# Altium schematic symbol library 3.4 - 合泰单片机.SchLib: 28 symbols
Pins are listed as number, name and electrical type; pins without a type are passive.

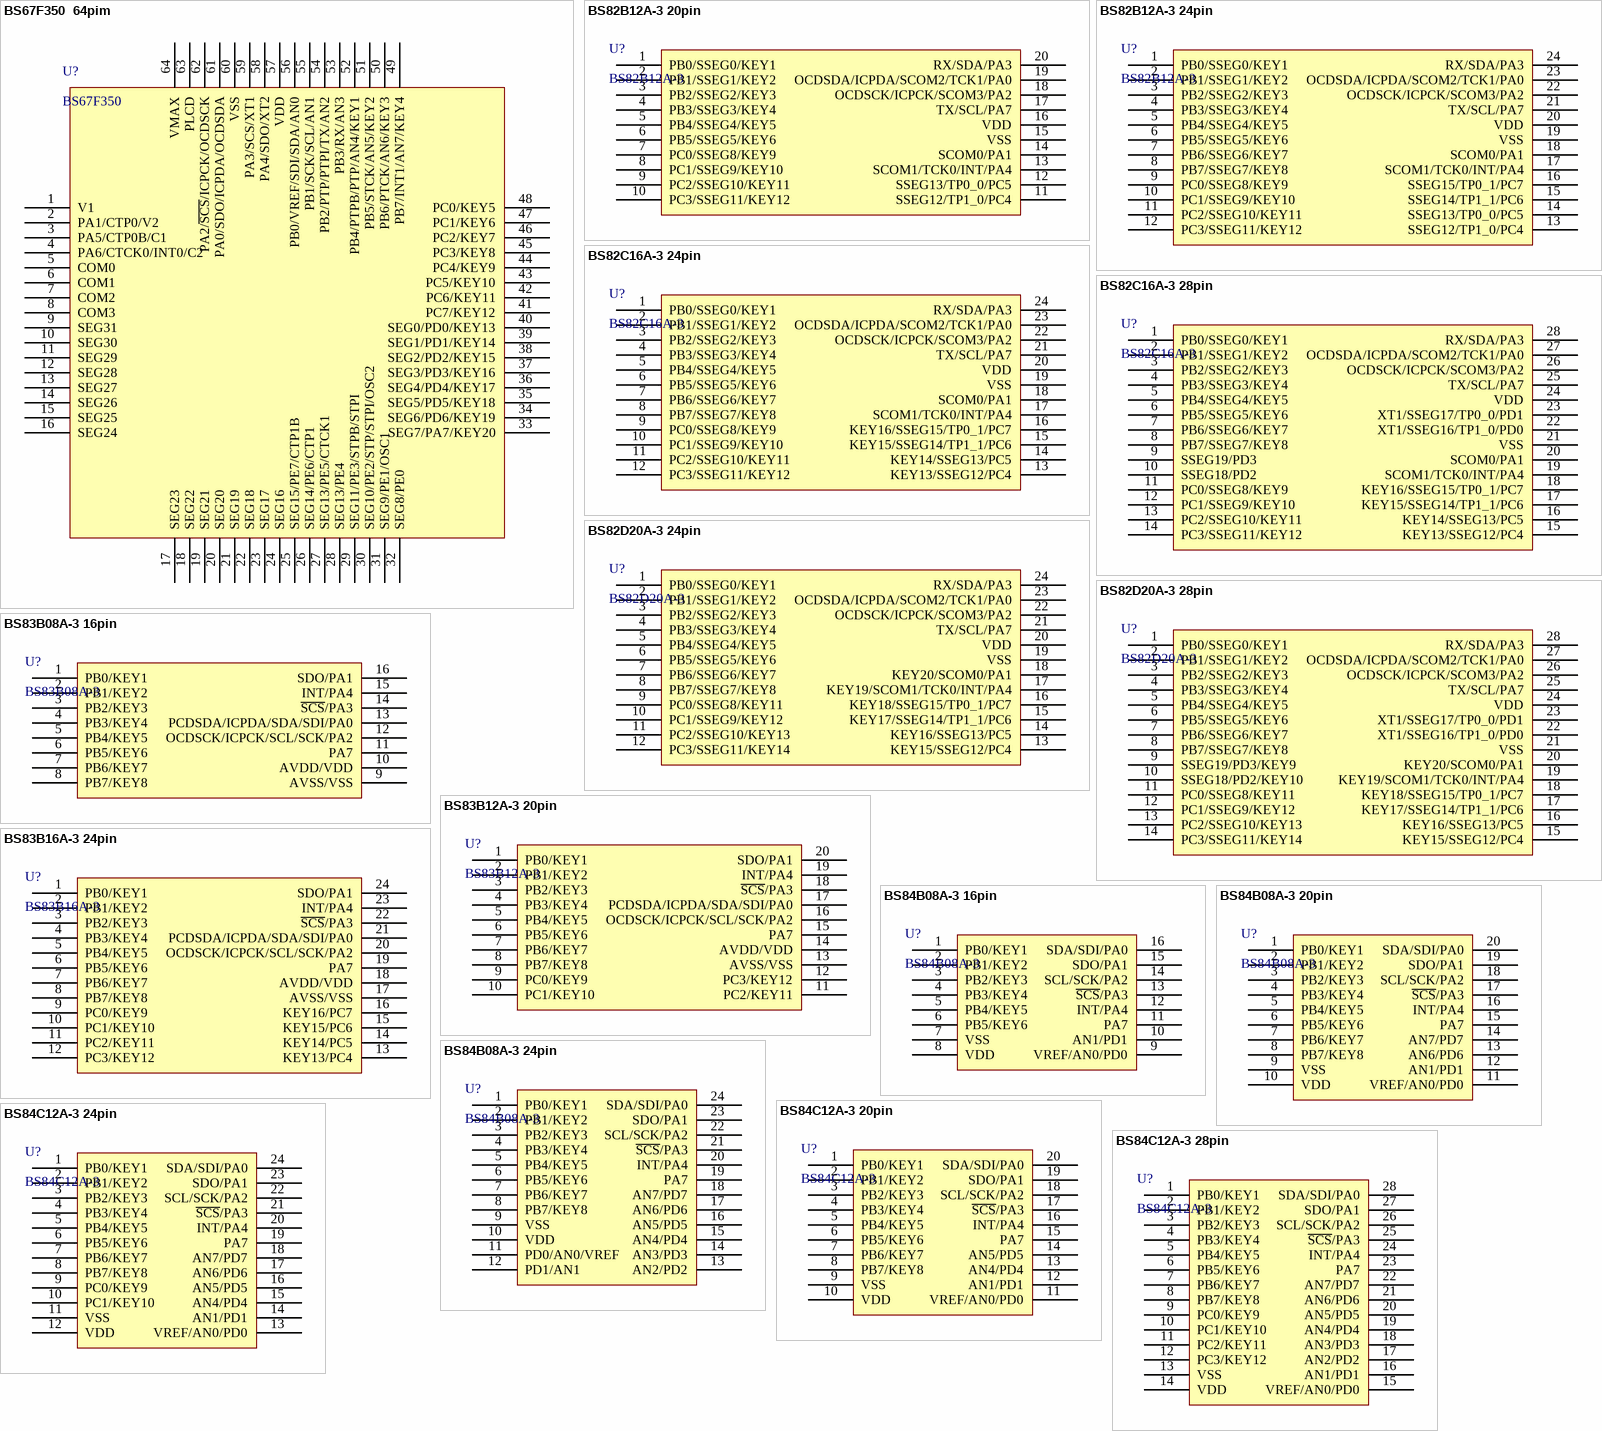
[diagram p0: symbols BS67F350  64pim to BS84C12A-3 28pin]

## BS67F350  64pim
designator U?, comment BS67F350
LCD/AD增强触控型; 版权归属: 封装库来自淘宝 ID：黄晶宝石; BOM名称: LCD/AD增强触控型; 唯一出售店铺网址: https://shop463601444.taobao.com
footprint LQFP64 7x7_L (64脚，体宽：7x7mm, 脚距：0.4mm)
footprint LQFP64 7x7_M (64脚，体宽：7x7mm, 脚距：0.4mm)
footprint LQFP64 7x7_N (64脚，体宽：7x7mm, 脚距：0.4mm)
pins: 1 V1, 2 PA1/CTP0/V2, 3 PA5/CTP0B/C1, 4 PA6/CTCK0/INT0/C2, 5 COM0, 6 COM1, 7 COM2, 8 COM3, 9 SEG31, 10 SEG30, 11 SEG29, 12 SEG28, 13 SEG27, 14 SEG26, 15 SEG25, 16 SEG24, 17 SEG23, 18 SEG22, 19 SEG21, 20 SEG20, 21 SEG19, 22 SEG18, 23 SEG17, 24 SEG16, 25 SEG15/PE7/CTP1B, 26 SEG14/PE6/CTP1, 27 SEG13/PE5/CTCK1, 28 SEG13/PE4, 29 SEG11/PE3/STPB/STPI, 30 SEG10/PE2/STP/STPI/OSC2, 31 SEG9/PE1/OSC1, 32 SEG8/PE0, 33 SEG7/PA7/KEY20, 34 SEG6/PD6/KEY19, 35 SEG5/PD5/KEY18, 36 SEG4/PD4/KEY17, 37 SEG3/PD3/KEY16, 38 SEG2/PD2/KEY15, 39 SEG1/PD1/KEY14, 40 SEG0/PD0/KEY13, 41 PC7/KEY12, 42 PC6/KEY11, 43 PC5/KEY10, 44 PC4/KEY9, 45 PC3/KEY8, 46 PC2/KEY7, 47 PC1/KEY6, 48 PC0/KEY5, 49 PB7/INT1/AN7/KEY4, 50 PB6/PTCK/AN6/KEY3, 51 PB5/STCK/AN5/KEY2, 52 PB4/PTPB/PTP/AN4/KEY1, 53 PB3/RX/AN3, 54 PB2/PTP/PTPI/TX/AN2, 55 PB1/SCK/SCL/AN1, 56 PB0/VREF/SDI/SDA/AN0, 57 VDD, 58 PA4/SDO/XT2, 59 PA3/SCS/XT1, 60 VSS, 61 PA0/SDO/ICPDA/OCDSDA, 62 PA2/~{SCS}/ICPCK/OCDSCK, 63 PLCD, 64 VMAX

## BS82B12A-3 20pin
designator U?, comment BS82B12A-3
LCD/LED/触控型; 版权归属: 封装库来自淘宝 ID：黄晶宝石; BOM名称: LCD/LED/触控型; 联系售后: https://shop463601444.taobao.com
footprint SOP20_L (13*10.6*2.6（长宽高）)
footprint SOP20_N (13*10.6*2.6（长宽高）)
footprint SOP20_M (13*10.6*2.6（长宽高）)
pins: 1 PB0/SSEG0/KEY1, 2 PB1/SSEG1/KEY2, 3 PB2/SSEG2/KEY3, 4 PB3/SSEG3/KEY4, 5 PB4/SSEG4/KEY5, 6 PB5/SSEG5/KEY6, 7 PC0/SSEG8/KEY9, 8 PC1/SSEG9/KEY10, 9 PC2/SSEG10/KEY11, 10 PC3/SSEG11/KEY12, 11 SSEG12/TP1_0/PC4, 12 SSEG13/TP0_0/PC5, 13 SCOM1/TCK0/INT/PA4, 14 SCOM0/PA1, 15 VSS, 16 VDD, 17 TX/SCL/PA7, 18 OCDSCK/ICPCK/SCOM3/PA2, 19 OCDSDA/ICPDA/SCOM2/TCK1/PA0, 20 RX/SDA/PA3

## BS82B12A-3 24pin
designator U?, comment BS82B12A-3
LCD/LED/触控型; 版权归属: 源创客; BOM名称: LCD/LED/触控型; 学习资源: https://shop463601444.taobao.com
footprint SOP24_L (15.4*10.6*2.6mm（长宽高）)
footprint SOP24_N (15.4*10.6*2.6mm（长宽高）)
footprint SOP24_M (15.4*10.6*2.6mm（长宽高）)
pins: 1 PB0/SSEG0/KEY1, 2 PB1/SSEG1/KEY2, 3 PB2/SSEG2/KEY3, 4 PB3/SSEG3/KEY4, 5 PB4/SSEG4/KEY5, 6 PB5/SSEG5/KEY6, 7 PB6/SSEG6/KEY7, 8 PB7/SSEG7/KEY8, 9 PC0/SSEG8/KEY9, 10 PC1/SSEG9/KEY10, 11 PC2/SSEG10/KEY11, 12 PC3/SSEG11/KEY12, 13 SSEG12/TP1_0/PC4, 14 SSEG13/TP0_0/PC5, 15 SSEG14/TP1_1/PC6, 16 SSEG15/TP0_1/PC7, 17 SCOM1/TCK0/INT/PA4, 18 SCOM0/PA1, 19 VSS, 20 VDD, 21 TX/SCL/PA7, 22 OCDSCK/ICPCK/SCOM3/PA2, 23 OCDSDA/ICPDA/SCOM2/TCK1/PA0, 24 RX/SDA/PA3

## BS82C16A-3 24pin
designator U?, comment BS82C16A-3
LCD/LED/触控型; 版权归属: 源创客; BOM名称: LCD/LED/触控型; 学习资源: https://shop463601444.taobao.com
footprint SOP24_L (15.4*10.6*2.6mm（长宽高）)
footprint SOP24_N (15.4*10.6*2.6mm（长宽高）)
footprint SOP24_M (15.4*10.6*2.6mm（长宽高）)
pins: 1 PB0/SSEG0/KEY1, 2 PB1/SSEG1/KEY2, 3 PB2/SSEG2/KEY3, 4 PB3/SSEG3/KEY4, 5 PB4/SSEG4/KEY5, 6 PB5/SSEG5/KEY6, 7 PB6/SSEG6/KEY7, 8 PB7/SSEG7/KEY8, 9 PC0/SSEG8/KEY9, 10 PC1/SSEG9/KEY10, 11 PC2/SSEG10/KEY11, 12 PC3/SSEG11/KEY12, 13 KEY13/SSEG12/PC4, 14 KEY14/SSEG13/PC5, 15 KEY15/SSEG14/TP1_1/PC6, 16 KEY16/SSEG15/TP0_1/PC7, 17 SCOM1/TCK0/INT/PA4, 18 SCOM0/PA1, 19 VSS, 20 VDD, 21 TX/SCL/PA7, 22 OCDSCK/ICPCK/SCOM3/PA2, 23 OCDSDA/ICPDA/SCOM2/TCK1/PA0, 24 RX/SDA/PA3

## BS82C16A-3 28pin
designator U?, comment BS82C16A-3
LCD/LED/触控型; 版权归属: 源创客; BOM名称: LCD/LED/触控型; 学习资源: https://shop463601444.taobao.com
footprint SOP28_L (17.9*10.6*2.6mm（长宽高）)
footprint SOP28_N (17.9*10.6*2.6mm（长宽高）)
footprint SOP28_M (17.9*10.6*2.6mm（长宽高）)
pins: 1 PB0/SSEG0/KEY1, 2 PB1/SSEG1/KEY2, 3 PB2/SSEG2/KEY3, 4 PB3/SSEG3/KEY4, 5 PB4/SSEG4/KEY5, 6 PB5/SSEG5/KEY6, 7 PB6/SSEG6/KEY7, 8 PB7/SSEG7/KEY8, 9 SSEG19/PD3, 10 SSEG18/PD2, 11 PC0/SSEG8/KEY9, 12 PC1/SSEG9/KEY10, 13 PC2/SSEG10/KEY11, 14 PC3/SSEG11/KEY12, 15 KEY13/SSEG12/PC4, 16 KEY14/SSEG13/PC5, 17 KEY15/SSEG14/TP1_1/PC6, 18 KEY16/SSEG15/TP0_1/PC7, 19 SCOM1/TCK0/INT/PA4, 20 SCOM0/PA1, 21 VSS, 22 XT1/SSEG16/TP1_0/PD0, 23 XT1/SSEG17/TP0_0/PD1, 24 VDD, 25 TX/SCL/PA7, 26 OCDSCK/ICPCK/SCOM3/PA2, 27 OCDSDA/ICPDA/SCOM2/TCK1/PA0, 28 RX/SDA/PA3

## BS82D20A-3 24pin
designator U?, comment BS82D20A-3
LCD/LED/触控型; 版权归属: 源创客; BOM名称: LCD/LED/触控型; 学习资源: https://shop463601444.taobao.com
footprint SOP24_L (15.4*10.6*2.6mm（长宽高）)
footprint SOP24_N (15.4*10.6*2.6mm（长宽高）)
footprint SOP24_M (15.4*10.6*2.6mm（长宽高）)
pins: 1 PB0/SSEG0/KEY1, 2 PB1/SSEG1/KEY2, 3 PB2/SSEG2/KEY3, 4 PB3/SSEG3/KEY4, 5 PB4/SSEG4/KEY5, 6 PB5/SSEG5/KEY6, 7 PB6/SSEG6/KEY7, 8 PB7/SSEG7/KEY8, 9 PC0/SSEG8/KEY11, 10 PC1/SSEG9/KEY12, 11 PC2/SSEG10/KEY13, 12 PC3/SSEG11/KEY14, 13 KEY15/SSEG12/PC4, 14 KEY16/SSEG13/PC5, 15 KEY17/SSEG14/TP1_1/PC6, 16 KEY18/SSEG15/TP0_1/PC7, 17 KEY19/SCOM1/TCK0/INT/PA4, 18 KEY20/SCOM0/PA1, 19 VSS, 20 VDD, 21 TX/SCL/PA7, 22 OCDSCK/ICPCK/SCOM3/PA2, 23 OCDSDA/ICPDA/SCOM2/TCK1/PA0, 24 RX/SDA/PA3

## BS82D20A-3 28pin
designator U?, comment BS82D20A-3
LCD/LED/触控型; 版权归属: 源创客; BOM名称: LCD/LED/触控型; 学习资源: https://shop463601444.taobao.com
footprint SOP28_L (17.9*10.6*2.6mm（长宽高）)
footprint SOP28_N (17.9*10.6*2.6mm（长宽高）)
footprint SOP28_M (17.9*10.6*2.6mm（长宽高）)
pins: 1 PB0/SSEG0/KEY1, 2 PB1/SSEG1/KEY2, 3 PB2/SSEG2/KEY3, 4 PB3/SSEG3/KEY4, 5 PB4/SSEG4/KEY5, 6 PB5/SSEG5/KEY6, 7 PB6/SSEG6/KEY7, 8 PB7/SSEG7/KEY8, 9 SSEG19/PD3/KEY9, 10 SSEG18/PD2/KEY10, 11 PC0/SSEG8/KEY11, 12 PC1/SSEG9/KEY12, 13 PC2/SSEG10/KEY13, 14 PC3/SSEG11/KEY14, 15 KEY15/SSEG12/PC4, 16 KEY16/SSEG13/PC5, 17 KEY17/SSEG14/TP1_1/PC6, 18 KEY18/SSEG15/TP0_1/PC7, 19 KEY19/SCOM1/TCK0/INT/PA4, 20 KEY20/SCOM0/PA1, 21 VSS, 22 XT1/SSEG16/TP1_0/PD0, 23 XT1/SSEG17/TP0_0/PD1, 24 VDD, 25 TX/SCL/PA7, 26 OCDSCK/ICPCK/SCOM3/PA2, 27 OCDSDA/ICPDA/SCOM2/TCK1/PA0, 28 RX/SDA/PA3

## BS83B08A-3 16pin
designator U?, comment BS83B08A-3
触控型; 版权归属: 源创客; BOM名称: 触控型; 学习资源: https://shop463601444.taobao.com
footprint SOP16_L (10.3*6.2*1.8mm（长宽高）)
footprint SOP16_N (10.3*6.2*1.8mm（长宽高）)
footprint SOP16_M (10.3*6.2*1.8mm（长宽高）)
footprint SSOP16_L (6.3*7.7*1.6mm（长宽高）)
footprint SSOP16_N (6.3*7.7*1.6mm（长宽高）)
footprint SSOP16_M (6.3*7.7*1.6mm（长宽高）)
pins: 1 PB0/KEY1, 2 PB1/KEY2, 3 PB2/KEY3, 4 PB3/KEY4, 5 PB4/KEY5, 6 PB5/KEY6, 7 PB6/KEY7, 8 PB7/KEY8, 9 AVSS/VSS, 10 AVDD/VDD, 11 PA7, 12 OCDSCK/ICPCK/SCL/SCK/PA2, 13 PCDSDA/ICPDA/SDA/SDI/PA0, 14 ~{SCS}/PA3, 15 INT/PA4, 16 SDO/PA1

## BS83B12A-3 20pin
designator U?, comment BS83B12A-3
触控型; 版权归属: 源创客; BOM名称: 触控型; 学习资源: https://shop463601444.taobao.com
footprint SOP20_L (13*10.6*2.6（长宽高）)
footprint SOP20_N (13*10.6*2.6（长宽高）)
footprint SOP20_M (13*10.6*2.6（长宽高）)
footprint SSOP20_L (7.2*7.8*1.6（长宽高）)
footprint SSOP20_N (7.2*7.8*1.6（长宽高）)
footprint SSOP20_M (7.2*7.8*1.6（长宽高）)
pins: 1 PB0/KEY1, 2 PB1/KEY2, 3 PB2/KEY3, 4 PB3/KEY4, 5 PB4/KEY5, 6 PB5/KEY6, 7 PB6/KEY7, 8 PB7/KEY8, 9 PC0/KEY9, 10 PC1/KEY10, 11 PC2/KEY11, 12 PC3/KEY12, 13 AVSS/VSS, 14 AVDD/VDD, 15 PA7, 16 OCDSCK/ICPCK/SCL/SCK/PA2, 17 PCDSDA/ICPDA/SDA/SDI/PA0, 18 ~{SCS}/PA3, 19 INT/PA4, 20 SDO/PA1

## BS83B16A-3 24pin
designator U?, comment BS83B16A-3
触控型; 版权归属: 源创客; BOM名称: 触控型; 学习资源: https://shop463601444.taobao.com
footprint SOP24_L (15.4*10.6*2.6mm（长宽高）)
footprint SOP24_N (15.4*10.6*2.6mm（长宽高）)
footprint SOP24_M (15.4*10.6*2.6mm（长宽高）)
footprint SSOP24_L (8.3*7.8*1.6（长宽高）)
footprint SSOP24_N (8.3*7.8*1.6（长宽高）)
footprint SSOP24_M (8.3*7.8*1.6（长宽高）)
pins: 1 PB0/KEY1, 2 PB1/KEY2, 3 PB2/KEY3, 4 PB3/KEY4, 5 PB4/KEY5, 6 PB5/KEY6, 7 PB6/KEY7, 8 PB7/KEY8, 9 PC0/KEY9, 10 PC1/KEY10, 11 PC2/KEY11, 12 PC3/KEY12, 13 KEY13/PC4, 14 KEY14/PC5, 15 KEY15/PC6, 16 KEY16/PC7, 17 AVSS/VSS, 18 AVDD/VDD, 19 PA7, 20 OCDSCK/ICPCK/SCL/SCK/PA2, 21 PCDSDA/ICPDA/SDA/SDI/PA0, 22 ~{SCS}/PA3, 23 INT/PA4, 24 SDO/PA1

## BS84B08A-3 16pin
designator U?, comment BS84B08A-3
AD/触控型; 版权归属: 源创客; BOM名称: AD/触控型; 学习资源: https://shop463601444.taobao.com
footprint SOP16_L (10.3*6.2*1.8mm（长宽高）)
footprint SOP16_N (10.3*6.2*1.8mm（长宽高）)
footprint SOP16_M (10.3*6.2*1.8mm（长宽高）)
pins: 1 PB0/KEY1, 2 PB1/KEY2, 3 PB2/KEY3, 4 PB3/KEY4, 5 PB4/KEY5, 6 PB5/KEY6, 7 VSS, 8 VDD, 9 VREF/AN0/PD0, 10 AN1/PD1, 11 PA7, 12 INT/PA4, 13 ~{SCS}/PA3, 14 SCL/SCK/PA2, 15 SDO/PA1, 16 SDA/SDI/PA0

## BS84B08A-3 20pin
designator U?, comment BS84B08A-3
AD/触控型; 版权归属: 源创客; BOM名称: AD/触控型; 学习资源: https://shop463601444.taobao.com
footprint SOP20_L (13*10.6*2.6（长宽高）)
footprint SOP20_N (13*10.6*2.6（长宽高）)
footprint SOP20_M (13*10.6*2.6（长宽高）)
pins: 1 PB0/KEY1, 2 PB1/KEY2, 3 PB2/KEY3, 4 PB3/KEY4, 5 PB4/KEY5, 6 PB5/KEY6, 7 PB6/KEY7, 8 PB7/KEY8, 9 VSS, 10 VDD, 11 VREF/AN0/PD0, 12 AN1/PD1, 13 AN6/PD6, 14 AN7/PD7, 15 PA7, 16 INT/PA4, 17 ~{SCS}/PA3, 18 SCL/SCK/PA2, 19 SDO/PA1, 20 SDA/SDI/PA0

## BS84B08A-3 24pin
designator U?, comment BS84B08A-3
AD/触控型; 版权归属: 源创客; BOM名称: AD/触控型; 学习资源: https://shop463601444.taobao.com
footprint SOP24_L (15.4*10.6*2.6mm（长宽高）)
footprint SOP24_N (15.4*10.6*2.6mm（长宽高）)
footprint SOP24_M (15.4*10.6*2.6mm（长宽高）)
pins: 1 PB0/KEY1, 2 PB1/KEY2, 3 PB2/KEY3, 4 PB3/KEY4, 5 PB4/KEY5, 6 PB5/KEY6, 7 PB6/KEY7, 8 PB7/KEY8, 9 VSS, 10 VDD, 11 PD0/AN0/VREF, 12 PD1/AN1, 13 AN2/PD2, 14 AN3/PD3, 15 AN4/PD4, 16 AN5/PD5, 17 AN6/PD6, 18 AN7/PD7, 19 PA7, 20 INT/PA4, 21 ~{SCS}/PA3, 22 SCL/SCK/PA2, 23 SDO/PA1, 24 SDA/SDI/PA0

## BS84C12A-3 20pin
designator U?, comment BS84C12A-3
AD/触控型; 版权归属: 源创客; BOM名称: AD/触控型; 学习资源: https://shop463601444.taobao.com
footprint SOP20_L (13*10.6*2.6（长宽高）)
footprint SOP20_N (13*10.6*2.6（长宽高）)
footprint SOP20_M (13*10.6*2.6（长宽高）)
pins: 1 PB0/KEY1, 2 PB1/KEY2, 3 PB2/KEY3, 4 PB3/KEY4, 5 PB4/KEY5, 6 PB5/KEY6, 7 PB6/KEY7, 8 PB7/KEY8, 9 VSS, 10 VDD, 11 VREF/AN0/PD0, 12 AN1/PD1, 13 AN4/PD4, 14 AN5/PD5, 15 PA7, 16 INT/PA4, 17 ~{SCS}/PA3, 18 SCL/SCK/PA2, 19 SDO/PA1, 20 SDA/SDI/PA0

## BS84C12A-3 24pin
designator U?, comment BS84C12A-3
AD/触控型; 版权归属: 源创客; BOM名称: AD/触控型; 学习资源: https://shop463601444.taobao.com
footprint SOP24_L (15.4*10.6*2.6mm（长宽高）)
footprint SOP24_N (15.4*10.6*2.6mm（长宽高）)
footprint SOP24_M (15.4*10.6*2.6mm（长宽高）)
pins: 1 PB0/KEY1, 2 PB1/KEY2, 3 PB2/KEY3, 4 PB3/KEY4, 5 PB4/KEY5, 6 PB5/KEY6, 7 PB6/KEY7, 8 PB7/KEY8, 9 PC0/KEY9, 10 PC1/KEY10, 11 VSS, 12 VDD, 13 VREF/AN0/PD0, 14 AN1/PD1, 15 AN4/PD4, 16 AN5/PD5, 17 AN6/PD6, 18 AN7/PD7, 19 PA7, 20 INT/PA4, 21 ~{SCS}/PA3, 22 SCL/SCK/PA2, 23 SDO/PA1, 24 SDA/SDI/PA0

## BS84C12A-3 28pin
designator U?, comment BS84C12A-3
AD/触控型; 版权归属: 源创客; BOM名称: AD/触控型; 学习资源: https://shop463601444.taobao.com
footprint SOP28_L (17.9*10.6*2.6mm（长宽高）)
footprint SOP28_N (17.9*10.6*2.6mm（长宽高）)
footprint SOP28_M (17.9*10.6*2.6mm（长宽高）)
pins: 1 PB0/KEY1, 2 PB1/KEY2, 3 PB2/KEY3, 4 PB3/KEY4, 5 PB4/KEY5, 6 PB5/KEY6, 7 PB6/KEY7, 8 PB7/KEY8, 9 PC0/KEY9, 10 PC1/KEY10, 11 PC2/KEY11, 12 PC3/KEY12, 13 VSS, 14 VDD, 15 VREF/AN0/PD0, 16 AN1/PD1, 17 AN2/PD2, 18 AN3/PD3, 19 AN4/PD4, 20 AN5/PD5, 21 AN6/PD6, 22 AN7/PD7, 23 PA7, 24 INT/PA4, 25 ~{SCS}/PA3, 26 SCL/SCK/PA2, 27 SDO/PA1, 28 SDA/SDI/PA0

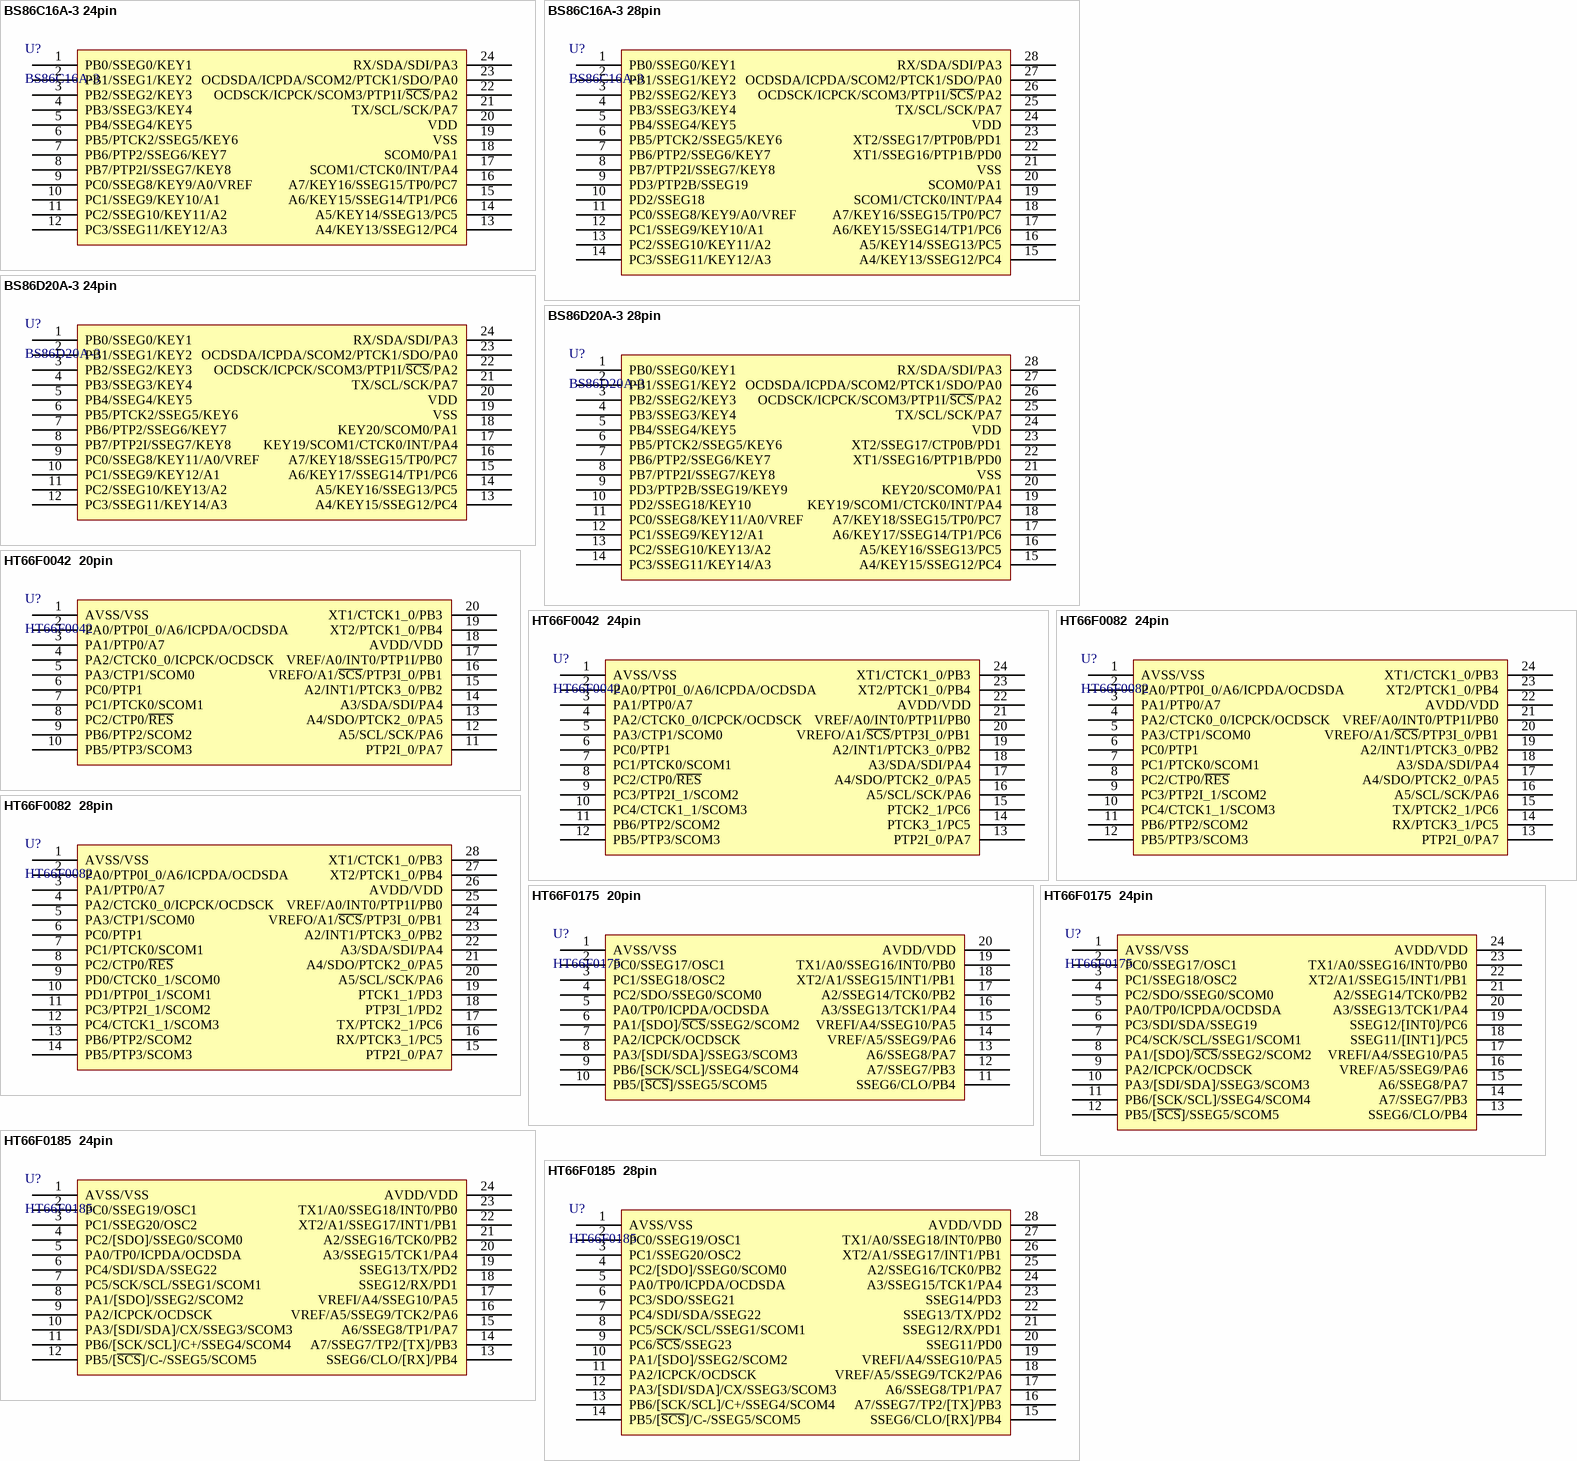
[diagram p1: symbols BS86C16A-3 24pin to HT66F0185  28pin]

## BS86C16A-3 24pin
designator U?, comment BS86C16A-3
LCD/LED/AD/触控型; 版权归属: 源创客; BOM名称: LCD/LED/AD/触控型; 学习资源: https://shop463601444.taobao.com
footprint SOP24_L (15.4*10.6*2.6mm（长宽高）)
footprint SOP24_N (15.4*10.6*2.6mm（长宽高）)
footprint SOP24_M (15.4*10.6*2.6mm（长宽高）)
pins: 1 PB0/SSEG0/KEY1, 2 PB1/SSEG1/KEY2, 3 PB2/SSEG2/KEY3, 4 PB3/SSEG3/KEY4, 5 PB4/SSEG4/KEY5, 6 PB5/PTCK2/SSEG5/KEY6, 7 PB6/PTP2/SSEG6/KEY7, 8 PB7/PTP2I/SSEG7/KEY8, 9 PC0/SSEG8/KEY9/A0/VREF, 10 PC1/SSEG9/KEY10/A1, 11 PC2/SSEG10/KEY11/A2, 12 PC3/SSEG11/KEY12/A3, 13 A4/KEY13/SSEG12/PC4, 14 A5/KEY14/SSEG13/PC5, 15 A6/KEY15/SSEG14/TP1/PC6, 16 A7/KEY16/SSEG15/TP0/PC7, 17 SCOM1/CTCK0/INT/PA4, 18 SCOM0/PA1, 19 VSS, 20 VDD, 21 TX/SCL/SCK/PA7, 22 OCDSCK/ICPCK/SCOM3/PTP1I/~{SCS}/PA2, 23 OCDSDA/ICPDA/SCOM2/PTCK1/SDO/PA0, 24 RX/SDA/SDI/PA3

## BS86C16A-3 28pin
designator U?, comment BS86C16A-3
LCD/LED/AD/触控型; 版权归属: 封装库来自淘宝 ID：黄晶宝石; BOM名称: LCD/LED/AD/触控型; 学习资源: https://shop463601444.taobao.com
footprint SOP28_L (17.9*10.6*2.6mm（长宽高）)
footprint SOP28_N (17.9*10.6*2.6mm（长宽高）)
footprint SOP28_M (17.9*10.6*2.6mm（长宽高）)
pins: 1 PB0/SSEG0/KEY1, 2 PB1/SSEG1/KEY2, 3 PB2/SSEG2/KEY3, 4 PB3/SSEG3/KEY4, 5 PB4/SSEG4/KEY5, 6 PB5/PTCK2/SSEG5/KEY6, 7 PB6/PTP2/SSEG6/KEY7, 8 PB7/PTP2I/SSEG7/KEY8, 9 PD3/PTP2B/SSEG19, 10 PD2/SSEG18, 11 PC0/SSEG8/KEY9/A0/VREF, 12 PC1/SSEG9/KEY10/A1, 13 PC2/SSEG10/KEY11/A2, 14 PC3/SSEG11/KEY12/A3, 15 A4/KEY13/SSEG12/PC4, 16 A5/KEY14/SSEG13/PC5, 17 A6/KEY15/SSEG14/TP1/PC6, 18 A7/KEY16/SSEG15/TP0/PC7, 19 SCOM1/CTCK0/INT/PA4, 20 SCOM0/PA1, 21 VSS, 22 XT1/SSEG16/PTP1B/PD0, 23 XT2/SSEG17/PTP0B/PD1, 24 VDD, 25 TX/SCL/SCK/PA7, 26 OCDSCK/ICPCK/SCOM3/PTP1I/~{SCS}/PA2, 27 OCDSDA/ICPDA/SCOM2/PTCK1/SDO/PA0, 28 RX/SDA/SDI/PA3

## BS86D20A-3 24pin
designator U?, comment BS86D20A-3
LCD/LED/AD/触控型; 版权归属: 源创客; BOM名称: LCD/LED/AD/触控型; 学习资源: https://shop463601444.taobao.com
footprint SOP24_L (15.4*10.6*2.6mm（长宽高）)
footprint SOP24_N (15.4*10.6*2.6mm（长宽高）)
footprint SOP24_M (15.4*10.6*2.6mm（长宽高）)
pins: 1 PB0/SSEG0/KEY1, 2 PB1/SSEG1/KEY2, 3 PB2/SSEG2/KEY3, 4 PB3/SSEG3/KEY4, 5 PB4/SSEG4/KEY5, 6 PB5/PTCK2/SSEG5/KEY6, 7 PB6/PTP2/SSEG6/KEY7, 8 PB7/PTP2I/SSEG7/KEY8, 9 PC0/SSEG8/KEY11/A0/VREF, 10 PC1/SSEG9/KEY12/A1, 11 PC2/SSEG10/KEY13/A2, 12 PC3/SSEG11/KEY14/A3, 13 A4/KEY15/SSEG12/PC4, 14 A5/KEY16/SSEG13/PC5, 15 A6/KEY17/SSEG14/TP1/PC6, 16 A7/KEY18/SSEG15/TP0/PC7, 17 KEY19/SCOM1/CTCK0/INT/PA4, 18 KEY20/SCOM0/PA1, 19 VSS, 20 VDD, 21 TX/SCL/SCK/PA7, 22 OCDSCK/ICPCK/SCOM3/PTP1I/~{SCS}/PA2, 23 OCDSDA/ICPDA/SCOM2/PTCK1/SDO/PA0, 24 RX/SDA/SDI/PA3

## BS86D20A-3 28pin
designator U?, comment BS86D20A-3
LCD/LED/AD/触控型; 版权归属: 源创客; BOM名称: LCD/LED/AD/触控型; 学习资源: https://shop463601444.taobao.com
footprint SOP28_L (17.9*10.6*2.6mm（长宽高）)
footprint SOP28_N (17.9*10.6*2.6mm（长宽高）)
footprint SOP28_M (17.9*10.6*2.6mm（长宽高）)
pins: 1 PB0/SSEG0/KEY1, 2 PB1/SSEG1/KEY2, 3 PB2/SSEG2/KEY3, 4 PB3/SSEG3/KEY4, 5 PB4/SSEG4/KEY5, 6 PB5/PTCK2/SSEG5/KEY6, 7 PB6/PTP2/SSEG6/KEY7, 8 PB7/PTP2I/SSEG7/KEY8, 9 PD3/PTP2B/SSEG19/KEY9, 10 PD2/SSEG18/KEY10, 11 PC0/SSEG8/KEY11/A0/VREF, 12 PC1/SSEG9/KEY12/A1, 13 PC2/SSEG10/KEY13/A2, 14 PC3/SSEG11/KEY14/A3, 15 A4/KEY15/SSEG12/PC4, 16 A5/KEY16/SSEG13/PC5, 17 A6/KEY17/SSEG14/TP1/PC6, 18 A7/KEY18/SSEG15/TP0/PC7, 19 KEY19/SCOM1/CTCK0/INT/PA4, 20 KEY20/SCOM0/PA1, 21 VSS, 22 XT1/SSEG16/PTP1B/PD0, 23 XT2/SSEG17/CTP0B/PD1, 24 VDD, 25 TX/SCL/SCK/PA7, 26 OCDSCK/ICPCK/SCOM3/PTP1I/~{SCS}/PA2, 27 OCDSDA/ICPDA/SCOM2/PTCK1/SDO/PA0, 28 RX/SDA/SDI/PA3

## HT66F0042  20pin
designator U?, comment HT66F0042
AD型; 版权归属: 源创客; BOM名称: AD型; 学习资源: https://shop463601444.taobao.com
footprint SOP20_L (13*10.6*2.6（长宽高）)
footprint SOP20_N (13*10.6*2.6（长宽高）)
footprint SOP20_M (13*10.6*2.6（长宽高）)
pins: 1 AVSS/VSS, 2 PA0/PTP0I_0/A6/ICPDA/OCDSDA, 3 PA1/PTP0/A7, 4 PA2/CTCK0_0/ICPCK/OCDSCK, 5 PA3/CTP1/SCOM0, 6 PC0/PTP1, 7 PC1/PTCK0/SCOM1, 8 PC2/CTP0/~{RES}, 9 PB6/PTP2/SCOM2, 10 PB5/PTP3/SCOM3, 11 PTP2I_0/PA7, 12 A5/SCL/SCK/PA6, 13 A4/SDO/PTCK2_0/PA5, 14 A3/SDA/SDI/PA4, 15 A2/INT1/PTCK3_0/PB2, 16 VREFO/A1/~{SCS}/PTP3I_0/PB1, 17 VREF/A0/INT0/PTP1I/PB0, 18 AVDD/VDD, 19 XT2/PTCK1_0/PB4, 20 XT1/CTCK1_0/PB3

## HT66F0042  24pin
designator U?, comment HT66F0042
AD型; 版权归属: 封装库来自淘宝 ID：黄晶宝石; BOM名称: AD型; 学习资源: https://shop463601444.taobao.com
footprint SOP24_L (15.4*10.6*2.6mm（长宽高）)
footprint SOP24_N (15.4*10.6*2.6mm（长宽高）)
footprint SOP24_M (15.4*10.6*2.6mm（长宽高）)
pins: 1 AVSS/VSS, 2 PA0/PTP0I_0/A6/ICPDA/OCDSDA, 3 PA1/PTP0/A7, 4 PA2/CTCK0_0/ICPCK/OCDSCK, 5 PA3/CTP1/SCOM0, 6 PC0/PTP1, 7 PC1/PTCK0/SCOM1, 8 PC2/CTP0/~{RES}, 9 PC3/PTP2I_1/SCOM2, 10 PC4/CTCK1_1/SCOM3, 11 PB6/PTP2/SCOM2, 12 PB5/PTP3/SCOM3, 13 PTP2I_0/PA7, 14 PTCK3_1/PC5, 15 PTCK2_1/PC6, 16 A5/SCL/SCK/PA6, 17 A4/SDO/PTCK2_0/PA5, 18 A3/SDA/SDI/PA4, 19 A2/INT1/PTCK3_0/PB2, 20 VREFO/A1/~{SCS}/PTP3I_0/PB1, 21 VREF/A0/INT0/PTP1I/PB0, 22 AVDD/VDD, 23 XT2/PTCK1_0/PB4, 24 XT1/CTCK1_0/PB3

## HT66F0082  24pin
designator U?, comment HT66F0082
AD型; 版权归属: 封装库来自淘宝 ID：黄晶宝石; BOM名称: AD型; 学习资源: https://shop463601444.taobao.com
footprint SOP24_L (15.4*10.6*2.6mm（长宽高）)
footprint SOP24_N (15.4*10.6*2.6mm（长宽高）)
footprint SOP24_M (15.4*10.6*2.6mm（长宽高）)
pins: 1 AVSS/VSS, 2 PA0/PTP0I_0/A6/ICPDA/OCDSDA, 3 PA1/PTP0/A7, 4 PA2/CTCK0_0/ICPCK/OCDSCK, 5 PA3/CTP1/SCOM0, 6 PC0/PTP1, 7 PC1/PTCK0/SCOM1, 8 PC2/CTP0/~{RES}, 9 PC3/PTP2I_1/SCOM2, 10 PC4/CTCK1_1/SCOM3, 11 PB6/PTP2/SCOM2, 12 PB5/PTP3/SCOM3, 13 PTP2I_0/PA7, 14 RX/PTCK3_1/PC5, 15 TX/PTCK2_1/PC6, 16 A5/SCL/SCK/PA6, 17 A4/SDO/PTCK2_0/PA5, 18 A3/SDA/SDI/PA4, 19 A2/INT1/PTCK3_0/PB2, 20 VREFO/A1/~{SCS}/PTP3I_0/PB1, 21 VREF/A0/INT0/PTP1I/PB0, 22 AVDD/VDD, 23 XT2/PTCK1_0/PB4, 24 XT1/CTCK1_0/PB3

## HT66F0082  28pin
designator U?, comment HT66F0082
AD型; 版权归属: 源创客; BOM名称: AD型; 学习资源: https://shop463601444.taobao.com
footprint SOP28_L (17.9*10.6*2.6mm（长宽高）)
footprint SOP28_N (17.9*10.6*2.6mm（长宽高）)
footprint SOP28_M (17.9*10.6*2.6mm（长宽高）)
pins: 1 AVSS/VSS, 2 PA0/PTP0I_0/A6/ICPDA/OCDSDA, 3 PA1/PTP0/A7, 4 PA2/CTCK0_0/ICPCK/OCDSCK, 5 PA3/CTP1/SCOM0, 6 PC0/PTP1, 7 PC1/PTCK0/SCOM1, 8 PC2/CTP0/~{RES}, 9 PD0/CTCK0_1/SCOM0, 10 PD1/PTP0I_1/SCOM1, 11 PC3/PTP2I_1/SCOM2, 12 PC4/CTCK1_1/SCOM3, 13 PB6/PTP2/SCOM2, 14 PB5/PTP3/SCOM3, 15 PTP2I_0/PA7, 16 RX/PTCK3_1/PC5, 17 TX/PTCK2_1/PC6, 18 PTP3I_1/PD2, 19 PTCK1_1/PD3, 20 A5/SCL/SCK/PA6, 21 A4/SDO/PTCK2_0/PA5, 22 A3/SDA/SDI/PA4, 23 A2/INT1/PTCK3_0/PB2, 24 VREFO/A1/~{SCS}/PTP3I_0/PB1, 25 VREF/A0/INT0/PTP1I/PB0, 26 AVDD/VDD, 27 XT2/PTCK1_0/PB4, 28 XT1/CTCK1_0/PB3

## HT66F0175  20pin
designator U?, comment HT66F0175
LCD/AD型; 版权归属: 源创客; BOM名称: LCD/AD型; 学习资源: https://shop463601444.taobao.com
footprint SOP20_L (13*10.6*2.6（长宽高）)
footprint SOP20_N (13*10.6*2.6（长宽高）)
footprint SOP20_M (13*10.6*2.6（长宽高）)
pins: 1 AVSS/VSS, 2 PC0/SSEG17/OSC1, 3 PC1/SSEG18/OSC2, 4 PC2/SDO/SSEG0/SCOM0, 5 PA0/TP0/ICPDA/OCDSDA, 6 PA1/[SDO]/~{SCS}/SSEG2/SCOM2, 7 PA2/ICPCK/OCDSCK, 8 PA3/[SDI/SDA]/SSEG3/SCOM3, 9 PB6/[SCK/SCL]/SSEG4/SCOM4, 10 PB5/[~{SCS}]/SSEG5/SCOM5, 11 SSEG6/CLO/PB4, 12 A7/SSEG7/PB3, 13 A6/SSEG8/PA7, 14 VREF/A5/SSEG9/PA6, 15 VREFI/A4/SSEG10/PA5, 16 A3/SSEG13/TCK1/PA4, 17 A2/SSEG14/TCK0/PB2, 18 XT2/A1/SSEG15/INT1/PB1, 19 TX1/A0/SSEG16/INT0/PB0, 20 AVDD/VDD

## HT66F0175  24pin
designator U?, comment HT66F0175
LCD/AD型; 版权归属: 源创客; BOM名称: LCD/AD型; 学习资源: https://shop463601444.taobao.com
footprint SOP24_L (15.4*10.6*2.6mm（长宽高）)
footprint SOP24_N (15.4*10.6*2.6mm（长宽高）)
footprint SOP24_M (15.4*10.6*2.6mm（长宽高）)
pins: 1 AVSS/VSS, 2 PC0/SSEG17/OSC1, 3 PC1/SSEG18/OSC2, 4 PC2/SDO/SSEG0/SCOM0, 5 PA0/TP0/ICPDA/OCDSDA, 6 PC3/SDI/SDA/SSEG19, 7 PC4/SCK/SCL/SSEG1/SCOM1, 8 PA1/[SDO]/~{SCS}/SSEG2/SCOM2, 9 PA2/ICPCK/OCDSCK, 10 PA3/[SDI/SDA]/SSEG3/SCOM3, 11 PB6/[SCK/SCL]/SSEG4/SCOM4, 12 PB5/[~{SCS}]/SSEG5/SCOM5, 13 SSEG6/CLO/PB4, 14 A7/SSEG7/PB3, 15 A6/SSEG8/PA7, 16 VREF/A5/SSEG9/PA6, 17 VREFI/A4/SSEG10/PA5, 18 SSEG11/[INT1]/PC5, 19 SSEG12/[INT0]/PC6, 20 A3/SSEG13/TCK1/PA4, 21 A2/SSEG14/TCK0/PB2, 22 XT2/A1/SSEG15/INT1/PB1, 23 TX1/A0/SSEG16/INT0/PB0, 24 AVDD/VDD

## HT66F0185  24pin
designator U?, comment HT66F0185
LCD/AD型; 版权归属: 封装库来自淘宝 ID：黄晶宝石; BOM名称: LCD/AD型; 学习资源: https://shop463601444.taobao.com
footprint SOP24_L (15.4*10.6*2.6mm（长宽高）)
footprint SOP24_N (15.4*10.6*2.6mm（长宽高）)
footprint SOP24_M (15.4*10.6*2.6mm（长宽高）)
pins: 1 AVSS/VSS, 2 PC0/SSEG19/OSC1, 3 PC1/SSEG20/OSC2, 4 PC2/[SDO]/SSEG0/SCOM0, 5 PA0/TP0/ICPDA/OCDSDA, 6 PC4/SDI/SDA/SSEG22, 7 PC5/SCK/SCL/SSEG1/SCOM1, 8 PA1/[SDO]/SSEG2/SCOM2, 9 PA2/ICPCK/OCDSCK, 10 PA3/[SDI/SDA]/CX/SSEG3/SCOM3, 11 PB6/[SCK/SCL]/C+/SSEG4/SCOM4, 12 PB5/[~{SCS}]/C-/SSEG5/SCOM5, 13 SSEG6/CLO/[RX]/PB4, 14 A7/SSEG7/TP2/[TX]/PB3, 15 A6/SSEG8/TP1/PA7, 16 VREF/A5/SSEG9/TCK2/PA6, 17 VREFI/A4/SSEG10/PA5, 18 SSEG12/RX/PD1, 19 SSEG13/TX/PD2, 20 A3/SSEG15/TCK1/PA4, 21 A2/SSEG16/TCK0/PB2, 22 XT2/A1/SSEG17/INT1/PB1, 23 TX1/A0/SSEG18/INT0/PB0, 24 AVDD/VDD

## HT66F0185  28pin
designator U?, comment HT66F0185
LCD/AD型; 版权归属: 源创客; BOM名称: LCD/AD型; 唯一出售店铺网址: https://shop463601444.taobao.com
footprint SOP28_L (17.9*10.6*2.6mm（长宽高）)
footprint SOP28_N (17.9*10.6*2.6mm（长宽高）)
footprint SOP28_M (17.9*10.6*2.6mm（长宽高）)
pins: 1 AVSS/VSS, 2 PC0/SSEG19/OSC1, 3 PC1/SSEG20/OSC2, 4 PC2/[SDO]/SSEG0/SCOM0, 5 PA0/TP0/ICPDA/OCDSDA, 6 PC3/SDO/SSEG21, 7 PC4/SDI/SDA/SSEG22, 8 PC5/SCK/SCL/SSEG1/SCOM1, 9 PC6/~{SCS}/SSEG23, 10 PA1/[SDO]/SSEG2/SCOM2, 11 PA2/ICPCK/OCDSCK, 12 PA3/[SDI/SDA]/CX/SSEG3/SCOM3, 13 PB6/[SCK/SCL]/C+/SSEG4/SCOM4, 14 PB5/[~{SCS}]/C-/SSEG5/SCOM5, 15 SSEG6/CLO/[RX]/PB4, 16 A7/SSEG7/TP2/[TX]/PB3, 17 A6/SSEG8/TP1/PA7, 18 VREF/A5/SSEG9/TCK2/PA6, 19 VREFI/A4/SSEG10/PA5, 20 SSEG11/PD0, 21 SSEG12/RX/PD1, 22 SSEG13/TX/PD2, 23 SSEG14/PD3, 24 A3/SSEG15/TCK1/PA4, 25 A2/SSEG16/TCK0/PB2, 26 XT2/A1/SSEG17/INT1/PB1, 27 TX1/A0/SSEG18/INT0/PB0, 28 AVDD/VDD